# Altium footprint library BQ79614PAPRQ1.PcbLib: 3 footprints
Each footprint in its own frame and in the unit in brackets; x right, y up, seen from the top. Pads: shape width x height; smd on the part's side, far side on the other; paste and mask are expansions set on the pad; w line width, h text height; cw(c..) or ccw(c..) is an arc to the next point about the centre after c.
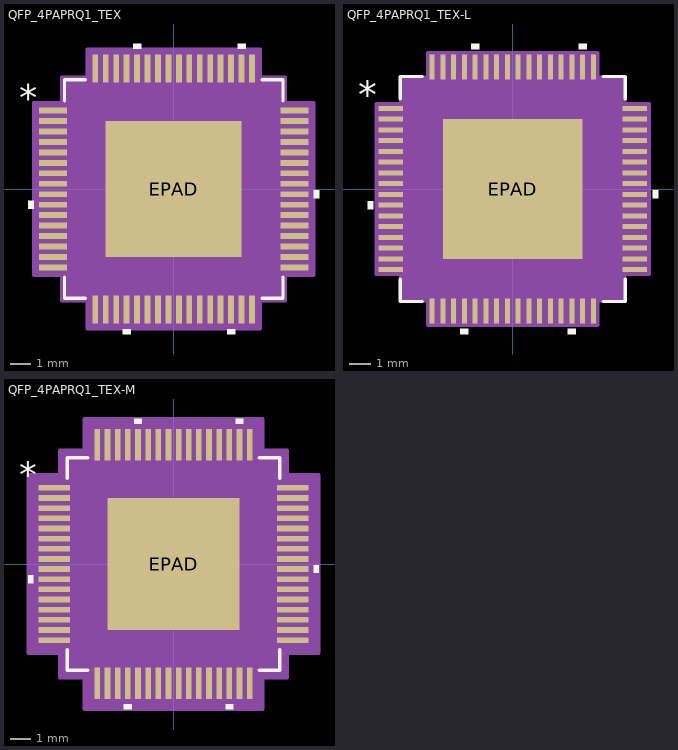
[diagram p0: the footprints below, top view; thin cyan lines are the x and y axes]

## QFP_4PAPRQ1_TEX [mil]
pads (65):
  rect 53x11 smd paste+0 mask+0: 1(-227.5,147.68) 2(-227.5,127.98) 3(-227.5,108.3) 4(-227.5,88.61) 5(-227.5,68.92) 6(-227.5,49.23) 7(-227.5,29.54) 8(-227.5,9.85) 9(-227.5,-9.85) 10(-227.5,-29.54) 11(-227.5,-49.23) 12(-227.5,-68.92) 13(-227.5,-88.61) 14(-227.5,-108.3) 15(-227.5,-127.98) 16(-227.5,-147.68) 33(227.5,-147.68) 34(227.5,-127.98) 35(227.5,-108.3) 36(227.5,-88.61) 37(227.5,-68.92) 38(227.5,-49.23) 39(227.5,-29.54) 40(227.5,-9.85) 41(227.5,9.85) 42(227.5,29.54) 43(227.5,49.23) 44(227.5,68.92) 45(227.5,88.61) 46(227.5,108.3) 47(227.5,127.98) 48(227.5,147.68)
  rect 11x53 smd paste+0 mask+0: 17(-147.68,-227.5) 18(-127.98,-227.5) 19(-108.3,-227.5) 20(-88.61,-227.5) 21(-68.92,-227.5) 22(-49.23,-227.5) 23(-29.54,-227.5) 24(-9.85,-227.5) 25(9.85,-227.5) 26(29.54,-227.5) 27(49.23,-227.5) 28(68.92,-227.5) 29(88.61,-227.5) 30(108.3,-227.5) 31(127.98,-227.5) 32(147.68,-227.5) 49(147.68,227.5) 50(127.98,227.5) 51(108.3,227.5) 52(88.61,227.5) 53(68.92,227.5) 54(49.23,227.5) 55(29.54,227.5) 56(9.85,227.5) 57(-9.85,227.5) 58(-29.54,227.5) 59(-49.23,227.5) 60(-68.92,227.5) 61(-88.61,227.5) 62(-108.3,227.5) 63(-127.98,227.5) 64(-147.68,227.5)
  rect 256x256 smd paste-127.5 mask+0: EPAD(0,0)
Top Overlay:
  region: -61.41,264 -76.42,264 -76.42,274 -61.41,274
  region: 135.49,264 120.48,264 120.48,274 135.49,274
  region: 264,-2.35 274,-2.35 274,-17.34 264,-17.34
  region: 115.8,-264 100.8,-264 100.8,-274 115.8,-274
  region: -81.11,-264 -96.11,-264 -96.11,-274 -81.11,-274
  region: -264,-22.04 -274,-22.04 -274,-37.03 -264,-37.03
  lines w6: -206,-166.28 -206,-206 -166.28,-206 ; -206,166.28 -206,206 -166.28,206 ; 166.28,-206 206,-206 206,-166.28 ; 166.28,206 206,206 206,166.28
  text "*" at -291.5,147.52 h50
Top Paste:
  region: 124.06,-80.74 80.74,-80.74 80.74,-124.06 124.06,-124.06
  region: 124.06,-29.54 80.74,-29.54 80.74,-72.86 124.06,-72.86
  region: 124.06,21.66 80.74,21.66 80.74,-21.66 124.06,-21.66
  region: 124.06,72.86 80.74,72.86 80.74,29.54 124.06,29.54
  region: 124.06,124.06 80.74,124.06 80.74,80.74 124.06,80.74
  region: 72.86,-80.74 29.54,-80.74 29.54,-124.06 72.86,-124.06
  region: 72.86,-29.54 29.54,-29.54 29.54,-72.86 72.86,-72.86
  region: 72.86,21.66 29.54,21.66 29.54,-21.66 72.86,-21.66
  region: 72.86,72.86 29.54,72.86 29.54,29.54 72.86,29.54
  region: 72.86,124.06 29.54,124.06 29.54,80.74 72.86,80.74
  region: 21.66,-80.74 -21.66,-80.74 -21.66,-124.06 21.66,-124.06
  region: 21.66,-29.54 -21.66,-29.54 -21.66,-72.86 21.66,-72.86
  region: 21.66,21.66 -21.66,21.66 -21.66,-21.66 21.66,-21.66
  region: 21.66,72.86 -21.66,72.86 -21.66,29.54 21.66,29.54
  region: 21.66,124.06 -21.66,124.06 -21.66,80.74 21.66,80.74
  region: -29.54,-80.74 -72.86,-80.74 -72.86,-124.06 -29.54,-124.06
  region: -29.54,-29.54 -72.86,-29.54 -72.86,-72.86 -29.54,-72.86
  region: -29.54,21.66 -72.86,21.66 -72.86,-21.66 -29.54,-21.66
  region: -29.54,72.86 -72.86,72.86 -72.86,29.54 -29.54,29.54
  region: -29.54,124.06 -72.86,124.06 -72.86,80.74 -29.54,80.74
  region: -80.74,-80.74 -124.06,-80.74 -124.06,-124.06 -80.74,-124.06
  region: -80.74,-29.54 -124.06,-29.54 -124.06,-72.86 -80.74,-72.86
  region: -80.74,21.66 -124.06,21.66 -124.06,-21.66 -80.74,-21.66
  region: -80.74,72.86 -124.06,72.86 -124.06,29.54 -80.74,29.54
  region: -80.74,124.06 -124.06,124.06 -124.06,80.74 -80.74,80.74
Mechanical 13:
  drawing of 261 lines, arcs and shapes, not listed
  text "*" at -198.5,132.52 h50
Mechanical 15:
  region: -163.18,-211 -211,-211 -211,-163.18 -264,-163.18 -264,163.18 -211,163.18 -211,211 -163.18,211 -163.18,264 163.18,264 163.18,211 211,211 211,163.18 264,163.18 264,-163.18 211,-163.18 211,-211 163.18,-211 163.18,-264 -163.18,-264
  lines w6: -264,-163.18 -264,163.18 -211,163.18 -211,211 -163.18,211 -163.18,264 163.18,264 163.18,211 211,211 211,163.18 264,163.18 264,-163.18 211,-163.18 211,-211 163.18,-211 163.18,-264 -163.18,-264 -163.18,-211 -211,-211 -211,-163.18 -264,-163.18
3D body "QFP_4PAPRQ1_TEX.step": height 39.09, standoff -2.01, extent -240,-240 240,240
3D body "QFP_4PAPRQ1_TEX.step": height 39.09, standoff -2.01, extent -240,-240 240,240

## QFP_4PAPRQ1_TEX-L [mil]
pads (65):
  rect 45x9 smd paste+0 mask+0: 1(-223.5,147.68) 2(-223.5,127.98) 3(-223.5,108.3) 4(-223.5,88.61) 5(-223.5,68.92) 6(-223.5,49.23) 7(-223.5,29.54) 8(-223.5,9.85) 9(-223.5,-9.85) 10(-223.5,-29.54) 11(-223.5,-49.23) 12(-223.5,-68.92) 13(-223.5,-88.61) 14(-223.5,-108.3) 15(-223.5,-127.98) 16(-223.5,-147.68) 33(223.5,-147.68) 34(223.5,-127.98) 35(223.5,-108.3) 36(223.5,-88.61) 37(223.5,-68.92) 38(223.5,-49.23) 39(223.5,-29.54) 40(223.5,-9.85) 41(223.5,9.85) 42(223.5,29.54) 43(223.5,49.23) 44(223.5,68.92) 45(223.5,88.61) 46(223.5,108.3) 47(223.5,127.98) 48(223.5,147.68)
  rect 9x45 smd paste+0 mask+0: 17(-147.68,-223.5) 18(-127.98,-223.5) 19(-108.3,-223.5) 20(-88.61,-223.5) 21(-68.92,-223.5) 22(-49.23,-223.5) 23(-29.54,-223.5) 24(-9.85,-223.5) 25(9.85,-223.5) 26(29.54,-223.5) 27(49.23,-223.5) 28(68.92,-223.5) 29(88.61,-223.5) 30(108.3,-223.5) 31(127.98,-223.5) 32(147.68,-223.5) 49(147.68,223.5) 50(127.98,223.5) 51(108.3,223.5) 52(88.61,223.5) 53(68.92,223.5) 54(49.23,223.5) 55(29.54,223.5) 56(9.85,223.5) 57(-9.85,223.5) 58(-29.54,223.5) 59(-49.23,223.5) 60(-68.92,223.5) 61(-88.61,223.5) 62(-108.3,223.5) 63(-127.98,223.5) 64(-147.68,223.5)
  rect 256x256 smd paste-127.5 mask+0: EPAD(0,0)
Top Overlay:
  region: -61.41,256 -76.42,256 -76.42,266 -61.41,266
  region: 135.49,256 120.48,256 120.48,266 135.49,266
  region: 256,-2.35 266,-2.35 266,-17.34 256,-17.34
  region: 115.8,-256 100.8,-256 100.8,-266 115.8,-266
  region: -81.11,-256 -96.11,-256 -96.11,-266 -81.11,-266
  region: -256,-22.04 -266,-22.04 -266,-37.03 -256,-37.03
  lines w6: -206,-165.28 -206,-206 -165.28,-206 ; -206,165.28 -206,206 -165.28,206 ; 165.28,-206 206,-206 206,-165.28 ; 165.28,206 206,206 206,165.28
  text "*" at -283.5,147.52 h50
Top Paste:
  region: 124.06,-80.74 80.74,-80.74 80.74,-124.06 124.06,-124.06
  region: 124.06,-29.54 80.74,-29.54 80.74,-72.86 124.06,-72.86
  region: 124.06,21.66 80.74,21.66 80.74,-21.66 124.06,-21.66
  region: 124.06,72.86 80.74,72.86 80.74,29.54 124.06,29.54
  region: 124.06,124.06 80.74,124.06 80.74,80.74 124.06,80.74
  region: 72.86,-80.74 29.54,-80.74 29.54,-124.06 72.86,-124.06
  region: 72.86,-29.54 29.54,-29.54 29.54,-72.86 72.86,-72.86
  region: 72.86,21.66 29.54,21.66 29.54,-21.66 72.86,-21.66
  region: 72.86,72.86 29.54,72.86 29.54,29.54 72.86,29.54
  region: 72.86,124.06 29.54,124.06 29.54,80.74 72.86,80.74
  region: 21.66,-80.74 -21.66,-80.74 -21.66,-124.06 21.66,-124.06
  region: 21.66,-29.54 -21.66,-29.54 -21.66,-72.86 21.66,-72.86
  region: 21.66,21.66 -21.66,21.66 -21.66,-21.66 21.66,-21.66
  region: 21.66,72.86 -21.66,72.86 -21.66,29.54 21.66,29.54
  region: 21.66,124.06 -21.66,124.06 -21.66,80.74 21.66,80.74
  region: -29.54,-80.74 -72.86,-80.74 -72.86,-124.06 -29.54,-124.06
  region: -29.54,-29.54 -72.86,-29.54 -72.86,-72.86 -29.54,-72.86
  region: -29.54,21.66 -72.86,21.66 -72.86,-21.66 -29.54,-21.66
  region: -29.54,72.86 -72.86,72.86 -72.86,29.54 -29.54,29.54
  region: -29.54,124.06 -72.86,124.06 -72.86,80.74 -29.54,80.74
  region: -80.74,-80.74 -124.06,-80.74 -124.06,-124.06 -80.74,-124.06
  region: -80.74,-29.54 -124.06,-29.54 -124.06,-72.86 -80.74,-72.86
  region: -80.74,21.66 -124.06,21.66 -124.06,-21.66 -80.74,-21.66
  region: -80.74,72.86 -124.06,72.86 -124.06,29.54 -80.74,29.54
  region: -80.74,124.06 -124.06,124.06 -124.06,80.74 -80.74,80.74
Mechanical 13:
  drawing of 261 lines, arcs and shapes, not listed
  text "*" at -198.5,132.52 h50
Mechanical 15:
  region: -156.18,-205 -205,-205 -205,-156.18 -250,-156.18 -250,156.18 -205,156.18 -205,205 -156.18,205 -156.18,250 156.18,250 156.18,205 205,205 205,156.18 250,156.18 250,-156.18 205,-156.18 205,-205 156.18,-205 156.18,-250 -156.18,-250
  lines w6: -250,-156.18 -250,156.18 -205,156.18 -205,205 -156.18,205 -156.18,250 156.18,250 156.18,205 205,205 205,156.18 250,156.18 250,-156.18 205,-156.18 205,-205 156.18,-205 156.18,-250 -156.18,-250 -156.18,-205 -205,-205 -205,-156.18 -250,-156.18
3D body "QFP_4PAPRQ1_TEX.step": height 39.09, standoff -2.01, extent -240,-240 240,240

## QFP_4PAPRQ1_TEX-M [mil]
pads (65):
  rect 61x11 smd paste+0 mask+0: 1(-231.5,147.68) 2(-231.5,127.98) 3(-231.5,108.3) 4(-231.5,88.61) 5(-231.5,68.92) 6(-231.5,49.23) 7(-231.5,29.54) 8(-231.5,9.85) 9(-231.5,-9.85) 10(-231.5,-29.54) 11(-231.5,-49.23) 12(-231.5,-68.92) 13(-231.5,-88.61) 14(-231.5,-108.3) 15(-231.5,-127.98) 16(-231.5,-147.68) 33(231.5,-147.68) 34(231.5,-127.98) 35(231.5,-108.3) 36(231.5,-88.61) 37(231.5,-68.92) 38(231.5,-49.23) 39(231.5,-29.54) 40(231.5,-9.85) 41(231.5,9.85) 42(231.5,29.54) 43(231.5,49.23) 44(231.5,68.92) 45(231.5,88.61) 46(231.5,108.3) 47(231.5,127.98) 48(231.5,147.68)
  rect 11x61 smd paste+0 mask+0: 17(-147.68,-231.5) 18(-127.98,-231.5) 19(-108.3,-231.5) 20(-88.61,-231.5) 21(-68.92,-231.5) 22(-49.23,-231.5) 23(-29.54,-231.5) 24(-9.85,-231.5) 25(9.85,-231.5) 26(29.54,-231.5) 27(49.23,-231.5) 28(68.92,-231.5) 29(88.61,-231.5) 30(108.3,-231.5) 31(127.98,-231.5) 32(147.68,-231.5) 49(147.68,231.5) 50(127.98,231.5) 51(108.3,231.5) 52(88.61,231.5) 53(68.92,231.5) 54(49.23,231.5) 55(29.54,231.5) 56(9.85,231.5) 57(-9.85,231.5) 58(-29.54,231.5) 59(-49.23,231.5) 60(-68.92,231.5) 61(-88.61,231.5) 62(-108.3,231.5) 63(-127.98,231.5) 64(-147.68,231.5)
  rect 256x256 smd paste-127.5 mask+0: EPAD(0,0)
Top Overlay:
  region: -272,-22.04 -282,-22.04 -282,-37.03 -272,-37.03
  region: -81.11,-272 -96.11,-272 -96.11,-282 -81.11,-282
  region: 115.8,-272 100.8,-272 100.8,-282 115.8,-282
  region: 272,-2.35 282,-2.35 282,-17.34 272,-17.34
  region: 135.49,272 120.48,272 120.48,282 135.49,282
  region: -61.41,272 -76.42,272 -76.42,282 -61.41,282
  lines w6: -206,-166.28 -206,-206 -166.28,-206 ; -206,166.28 -206,206 -166.28,206 ; 166.28,-206 206,-206 206,-166.28 ; 166.28,206 206,206 206,166.28
  text "*" at -299.5,147.52 h50
Top Paste:
  region: -80.74,124.06 -124.06,124.06 -124.06,80.74 -80.74,80.74
  region: -80.74,72.86 -124.06,72.86 -124.06,29.54 -80.74,29.54
  region: -80.74,21.66 -124.06,21.66 -124.06,-21.66 -80.74,-21.66
  region: -80.74,-29.54 -124.06,-29.54 -124.06,-72.86 -80.74,-72.86
  region: -80.74,-80.74 -124.06,-80.74 -124.06,-124.06 -80.74,-124.06
  region: -29.54,124.06 -72.86,124.06 -72.86,80.74 -29.54,80.74
  region: -29.54,72.86 -72.86,72.86 -72.86,29.54 -29.54,29.54
  region: -29.54,21.66 -72.86,21.66 -72.86,-21.66 -29.54,-21.66
  region: -29.54,-29.54 -72.86,-29.54 -72.86,-72.86 -29.54,-72.86
  region: -29.54,-80.74 -72.86,-80.74 -72.86,-124.06 -29.54,-124.06
  region: 21.66,124.06 -21.66,124.06 -21.66,80.74 21.66,80.74
  region: 21.66,72.86 -21.66,72.86 -21.66,29.54 21.66,29.54
  region: 21.66,21.66 -21.66,21.66 -21.66,-21.66 21.66,-21.66
  region: 21.66,-29.54 -21.66,-29.54 -21.66,-72.86 21.66,-72.86
  region: 21.66,-80.74 -21.66,-80.74 -21.66,-124.06 21.66,-124.06
  region: 72.86,124.06 29.54,124.06 29.54,80.74 72.86,80.74
  region: 72.86,72.86 29.54,72.86 29.54,29.54 72.86,29.54
  region: 72.86,21.66 29.54,21.66 29.54,-21.66 72.86,-21.66
  region: 72.86,-29.54 29.54,-29.54 29.54,-72.86 72.86,-72.86
  region: 72.86,-80.74 29.54,-80.74 29.54,-124.06 72.86,-124.06
  region: 124.06,124.06 80.74,124.06 80.74,80.74 124.06,80.74
  region: 124.06,72.86 80.74,72.86 80.74,29.54 124.06,29.54
  region: 124.06,21.66 80.74,21.66 80.74,-21.66 124.06,-21.66
  region: 124.06,-29.54 80.74,-29.54 80.74,-72.86 124.06,-72.86
  region: 124.06,-80.74 80.74,-80.74 80.74,-124.06 124.06,-124.06
Mechanical 13:
  drawing of 261 lines, arcs and shapes, not listed
  text "*" at -198.5,132.52 h50
Mechanical 15:
  region: -173.18,-221 -221,-221 -221,-173.18 -282,-173.18 -282,173.18 -221,173.18 -221,221 -173.18,221 -173.18,282 173.18,282 173.18,221 221,221 221,173.18 282,173.18 282,-173.18 221,-173.18 221,-221 173.18,-221 173.18,-282 -173.18,-282
  lines w6: -282,-173.18 -221,-173.18 -221,-221 -173.18,-221 -173.18,-282 173.18,-282 173.18,-221 221,-221 221,-173.18 282,-173.18 282,173.18 221,173.18 221,221 173.18,221 173.18,282 -173.18,282 -173.18,221 -221,221 -221,173.18 -282,173.18 -282,-173.18
3D body "QFP_4PAPRQ1_TEX.step": height 39.09, standoff -2.01, extent -240,-240 240,240